# Altium footprint library Header_127.PcbLib: 60 footprints (part 6 of 6)
Each footprint in its own frame and in the unit in brackets; x right, y up, seen from the top. Pads: shape width x height; smd on the part's side, far side on the other; paste and mask are expansions set on the pad; w line width, h text height; cw(c..) or ccw(c..) is an arc to the next point about the centre after c.
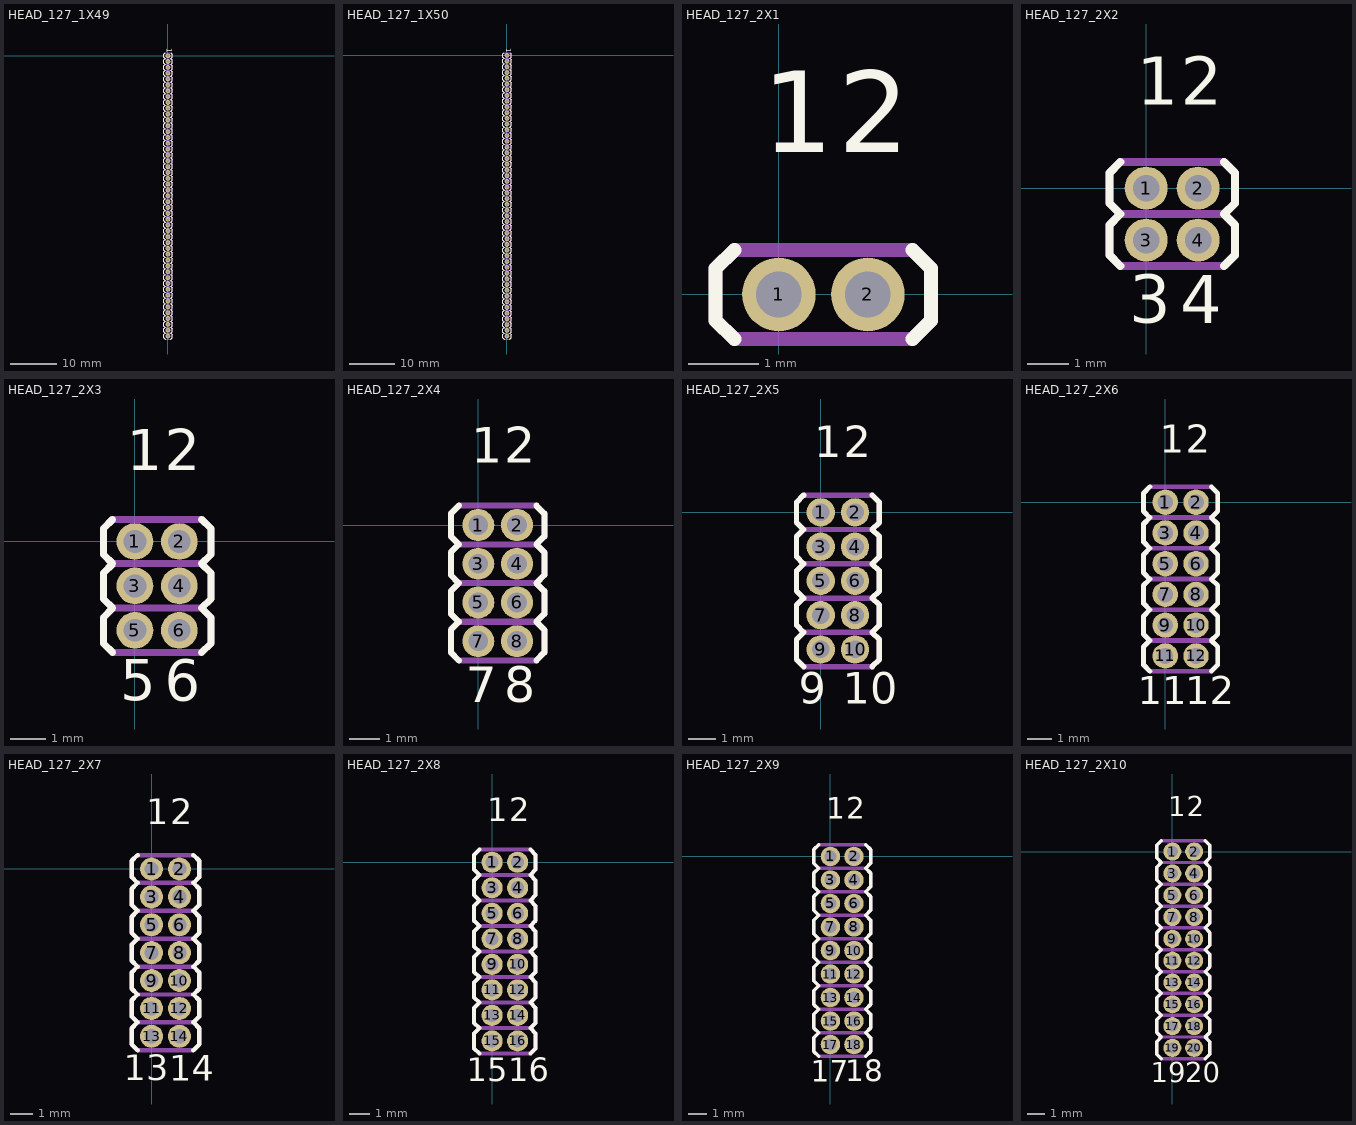
[diagram p5: the footprints below, top view; thin cyan lines are the x and y axes]

## HEAD_127_1X49 [mm] "Header 1.27mm 1x49"
pads (49):
  round 1.05 hole 0.65: 1(0,0) 2(0,-1.27) 3(0,-2.54) 4(0,-3.81) 5(0,-5.08) 6(0,-6.35) 7(0,-7.62) 8(0,-8.89) 9(0,-10.16) 10(0,-11.43) 11(0,-12.7) 12(0,-13.97) 13(0,-15.24) 14(0,-16.51) 15(0,-17.78) 16(0,-19.05) 17(0,-20.32) 18(0,-21.59) 19(0,-22.86) 20(0,-24.13) 21(0,-25.4) 22(0,-26.67) 23(0,-27.94) 24(0,-29.21) 25(0,-30.48) 26(0,-31.75) 27(0,-33.02) 28(0,-34.29) 29(0,-35.56) 30(0,-36.83) 31(0,-38.1) 32(0,-39.37) 33(0,-40.64) 34(0,-41.91) 35(0,-43.18) 36(0,-44.45) 37(0,-45.72) 38(0,-46.99) 39(0,-48.26) 40(0,-49.53) 41(0,-50.8) 42(0,-52.07) 43(0,-53.34) 44(0,-54.61) 45(0,-55.88) 46(0,-57.15) 47(0,-58.42) 48(0,-59.69) 49(0,-60.96)
Top Overlay:
  drawing of 294 lines, arcs and shapes, not listed
  text "1" at -0.642,1.636 h2
Bottom Overlay:
  text "1" at -0.642,0.864 h2
Top Assembly:
  drawing of 351 lines, arcs and shapes, not listed
3D body: height 10, standoff -3, extent -0.2,-57.35 0.2,-56.95
3D body: height 2, standoff 0, extent -0.9,-57.785 0.9,-56.515
3D body: height 10, standoff -3, extent -0.2,-17.98 0.2,-17.58
3D body: height 2, standoff 0, extent -0.9,-18.415 0.9,-17.145
3D body: height 10, standoff -3, extent -0.2,-16.71 0.2,-16.31
3D body: height 2, standoff 0, extent -0.9,-17.145 0.9,-15.875
3D body: height 10, standoff -3, extent -0.2,-15.44 0.2,-15.04
3D body: height 2, standoff 0, extent -0.9,-15.875 0.9,-14.605
3D body: height 10, standoff -3, extent -0.2,-14.17 0.2,-13.77
3D body: height 2, standoff 0, extent -0.9,-14.605 0.9,-13.335
3D body: height 10, standoff -3, extent -0.2,-12.9 0.2,-12.5
3D body: height 2, standoff 0, extent -0.9,-13.335 0.9,-12.065
3D body: height 10, standoff -3, extent -0.2,-11.63 0.2,-11.23
3D body: height 2, standoff 0, extent -0.9,-12.065 0.9,-10.795
3D body: height 10, standoff -3, extent -0.2,-10.36 0.2,-9.96
3D body: height 2, standoff 0, extent -0.9,-10.795 0.9,-9.525
3D body: height 10, standoff -3, extent -0.2,-9.09 0.2,-8.69
3D body: height 2, standoff 0, extent -0.9,-9.525 0.9,-8.255
3D body: height 2, standoff 0, extent -0.9,-8.255 0.9,-6.985
3D body: height 10, standoff -3, extent -0.2,-7.82 0.2,-7.42
3D body: height 2, standoff 0, extent -0.9,-6.985 0.9,-5.715
3D body: height 10, standoff -3, extent -0.2,-6.55 0.2,-6.15
3D body: height 2, standoff 0, extent -0.9,-5.715 0.9,-4.445
3D body: height 10, standoff -3, extent -0.2,-5.28 0.2,-4.88
3D body: height 2, standoff 0, extent -0.9,-4.445 0.9,-3.175
3D body: height 10, standoff -3, extent -0.2,-4.01 0.2,-3.61
3D body: height 2, standoff 0, extent -0.9,-3.175 0.9,-1.905
3D body: height 10, standoff -3, extent -0.2,-2.74 0.2,-2.34
3D body: height 2, standoff 0, extent -0.9,-1.905 0.9,-0.635
3D body: height 10, standoff -3, extent -0.2,-1.47 0.2,-1.07
3D body: height 2, standoff 0, extent -0.9,-0.635 0.9,0.635
3D body: height 10, standoff -3, extent -0.2,-0.2 0.2,0.2
3D body: height 10, standoff -3, extent -0.2,-19.25 0.2,-18.85
3D body: height 2, standoff 0, extent -0.9,-19.685 0.9,-18.415
3D body: height 10, standoff -3, extent -0.2,-20.52 0.2,-20.12
3D body: height 2, standoff 0, extent -0.9,-20.955 0.9,-19.685
3D body: height 10, standoff -3, extent -0.2,-21.79 0.2,-21.39
3D body: height 2, standoff 0, extent -0.9,-22.225 0.9,-20.955
3D body: height 10, standoff -3, extent -0.2,-23.06 0.2,-22.66
3D body: height 2, standoff 0, extent -0.9,-23.495 0.9,-22.225
3D body: height 10, standoff -3, extent -0.2,-24.33 0.2,-23.93
3D body: height 2, standoff 0, extent -0.9,-24.765 0.9,-23.495
3D body: height 10, standoff -3, extent -0.2,-25.6 0.2,-25.2
3D body: height 2, standoff 0, extent -0.9,-26.035 0.9,-24.765
3D body: height 10, standoff -3, extent -0.2,-26.87 0.2,-26.47
3D body: height 2, standoff 0, extent -0.9,-27.305 0.9,-26.035
3D body: height 10, standoff -3, extent -0.2,-28.14 0.2,-27.74
3D body: height 2, standoff 0, extent -0.9,-28.575 0.9,-27.305
3D body: height 10, standoff -3, extent -0.2,-29.41 0.2,-29.01
3D body: height 2, standoff 0, extent -0.9,-29.845 0.9,-28.575
3D body: height 10, standoff -3, extent -0.2,-30.68 0.2,-30.28
3D body: height 2, standoff 0, extent -0.9,-31.115 0.9,-29.845
3D body: height 10, standoff -3, extent -0.2,-31.95 0.2,-31.55
3D body: height 2, standoff 0, extent -0.9,-32.385 0.9,-31.115
3D body: height 10, standoff -3, extent -0.2,-33.22 0.2,-32.82
3D body: height 2, standoff 0, extent -0.9,-33.655 0.9,-32.385
3D body: height 10, standoff -3, extent -0.2,-34.49 0.2,-34.09
3D body: height 2, standoff 0, extent -0.9,-34.925 0.9,-33.655
3D body: height 10, standoff -3, extent -0.2,-35.76 0.2,-35.36
3D body: height 2, standoff 0, extent -0.9,-36.195 0.9,-34.925
3D body: height 10, standoff -3, extent -0.2,-37.03 0.2,-36.63
3D body: height 2, standoff 0, extent -0.9,-37.465 0.9,-36.195
3D body: height 10, standoff -3, extent -0.2,-38.3 0.2,-37.9
3D body: height 2, standoff 0, extent -0.9,-38.735 0.9,-37.465
3D body: height 10, standoff -3, extent -0.2,-39.57 0.2,-39.17
3D body: height 2, standoff 0, extent -0.9,-40.005 0.9,-38.735
3D body: height 10, standoff -3, extent -0.2,-40.84 0.2,-40.44
3D body: height 2, standoff 0, extent -0.9,-41.275 0.9,-40.005
3D body: height 10, standoff -3, extent -0.2,-42.11 0.2,-41.71
3D body: height 2, standoff 0, extent -0.9,-42.545 0.9,-41.275
3D body: height 10, standoff -3, extent -0.2,-43.38 0.2,-42.98
3D body: height 2, standoff 0, extent -0.9,-43.815 0.9,-42.545
3D body: height 10, standoff -3, extent -0.2,-44.65 0.2,-44.25
3D body: height 2, standoff 0, extent -0.9,-45.085 0.9,-43.815
3D body: height 10, standoff -3, extent -0.2,-45.92 0.2,-45.52
3D body: height 2, standoff 0, extent -0.9,-46.355 0.9,-45.085
3D body: height 10, standoff -3, extent -0.2,-47.19 0.2,-46.79
3D body: height 2, standoff 0, extent -0.9,-47.625 0.9,-46.355
3D body: height 10, standoff -3, extent -0.2,-48.46 0.2,-48.06
3D body: height 2, standoff 0, extent -0.9,-48.895 0.9,-47.625
3D body: height 10, standoff -3, extent -0.2,-49.73 0.2,-49.33
3D body: height 2, standoff 0, extent -0.9,-50.165 0.9,-48.895
3D body: height 10, standoff -3, extent -0.2,-51 0.2,-50.6
3D body: height 2, standoff 0, extent -0.9,-51.435 0.9,-50.165
3D body: height 10, standoff -3, extent -0.2,-52.27 0.2,-51.87
3D body: height 2, standoff 0, extent -0.9,-52.705 0.9,-51.435
3D body: height 10, standoff -3, extent -0.2,-53.54 0.2,-53.14
3D body: height 2, standoff 0, extent -0.9,-53.975 0.9,-52.705
3D body: height 10, standoff -3, extent -0.2,-54.81 0.2,-54.41
3D body: height 2, standoff 0, extent -0.9,-55.245 0.9,-53.975
3D body: height 10, standoff -3, extent -0.2,-56.08 0.2,-55.68
3D body: height 2, standoff 0, extent -0.9,-56.515 0.9,-55.245
3D body: height 10, standoff -3, extent -0.2,-58.62 0.2,-58.22
3D body: height 2, standoff 0, extent -0.9,-59.055 0.9,-57.785
3D body: height 10, standoff -3, extent -0.2,-59.89 0.2,-59.49
3D body: height 2, standoff 0, extent -0.9,-60.325 0.9,-59.055
3D body: height 10, standoff -3, extent -0.2,-61.16 0.2,-60.76
3D body: height 2, standoff 0, extent -0.9,-61.595 0.9,-60.325

## HEAD_127_1X50 [mm] "Header 1.27mm 1x50"
pads (50):
  round 1.05 hole 0.65: 1(0,0) 2(0,-1.27) 3(0,-2.54) 4(0,-3.81) 5(0,-5.08) 6(0,-6.35) 7(0,-7.62) 8(0,-8.89) 9(0,-10.16) 10(0,-11.43) 11(0,-12.7) 12(0,-13.97) 13(0,-15.24) 14(0,-16.51) 15(0,-17.78) 16(0,-19.05) 17(0,-20.32) 18(0,-21.59) 19(0,-22.86) 20(0,-24.13) 21(0,-25.4) 22(0,-26.67) 23(0,-27.94) 24(0,-29.21) 25(0,-30.48) 26(0,-31.75) 27(0,-33.02) 28(0,-34.29) 29(0,-35.56) 30(0,-36.83) 31(0,-38.1) 32(0,-39.37) 33(0,-40.64) 34(0,-41.91) 35(0,-43.18) 36(0,-44.45) 37(0,-45.72) 38(0,-46.99) 39(0,-48.26) 40(0,-49.53) 41(0,-50.8) 42(0,-52.07) 43(0,-53.34) 44(0,-54.61) 45(0,-55.88) 46(0,-57.15) 47(0,-58.42) 48(0,-59.69) 49(0,-60.96) 50(0,-62.23)
Top Overlay:
  drawing of 300 lines, arcs and shapes, not listed
  text "1" at -0.642,1.636 h2
Bottom Overlay:
  text "1" at -0.642,0.864 h2
Top Assembly:
  drawing of 358 lines, arcs and shapes, not listed
3D body: height 10, standoff -3, extent -0.2,-57.35 0.2,-56.95
3D body: height 2, standoff 0, extent -0.9,-57.785 0.9,-56.515
3D body: height 10, standoff -3, extent -0.2,-17.98 0.2,-17.58
3D body: height 2, standoff 0, extent -0.9,-18.415 0.9,-17.145
3D body: height 10, standoff -3, extent -0.2,-16.71 0.2,-16.31
3D body: height 2, standoff 0, extent -0.9,-17.145 0.9,-15.875
3D body: height 10, standoff -3, extent -0.2,-15.44 0.2,-15.04
3D body: height 2, standoff 0, extent -0.9,-15.875 0.9,-14.605
3D body: height 10, standoff -3, extent -0.2,-14.17 0.2,-13.77
3D body: height 2, standoff 0, extent -0.9,-14.605 0.9,-13.335
3D body: height 10, standoff -3, extent -0.2,-12.9 0.2,-12.5
3D body: height 2, standoff 0, extent -0.9,-13.335 0.9,-12.065
3D body: height 10, standoff -3, extent -0.2,-11.63 0.2,-11.23
3D body: height 2, standoff 0, extent -0.9,-12.065 0.9,-10.795
3D body: height 10, standoff -3, extent -0.2,-10.36 0.2,-9.96
3D body: height 2, standoff 0, extent -0.9,-10.795 0.9,-9.525
3D body: height 10, standoff -3, extent -0.2,-9.09 0.2,-8.69
3D body: height 2, standoff 0, extent -0.9,-9.525 0.9,-8.255
3D body: height 2, standoff 0, extent -0.9,-8.255 0.9,-6.985
3D body: height 10, standoff -3, extent -0.2,-7.82 0.2,-7.42
3D body: height 2, standoff 0, extent -0.9,-6.985 0.9,-5.715
3D body: height 10, standoff -3, extent -0.2,-6.55 0.2,-6.15
3D body: height 2, standoff 0, extent -0.9,-5.715 0.9,-4.445
3D body: height 10, standoff -3, extent -0.2,-5.28 0.2,-4.88
3D body: height 2, standoff 0, extent -0.9,-4.445 0.9,-3.175
3D body: height 10, standoff -3, extent -0.2,-4.01 0.2,-3.61
3D body: height 2, standoff 0, extent -0.9,-3.175 0.9,-1.905
3D body: height 10, standoff -3, extent -0.2,-2.74 0.2,-2.34
3D body: height 2, standoff 0, extent -0.9,-1.905 0.9,-0.635
3D body: height 10, standoff -3, extent -0.2,-1.47 0.2,-1.07
3D body: height 2, standoff 0, extent -0.9,-0.635 0.9,0.635
3D body: height 10, standoff -3, extent -0.2,-0.2 0.2,0.2
3D body: height 10, standoff -3, extent -0.2,-19.25 0.2,-18.85
3D body: height 2, standoff 0, extent -0.9,-19.685 0.9,-18.415
3D body: height 10, standoff -3, extent -0.2,-20.52 0.2,-20.12
3D body: height 2, standoff 0, extent -0.9,-20.955 0.9,-19.685
3D body: height 10, standoff -3, extent -0.2,-21.79 0.2,-21.39
3D body: height 2, standoff 0, extent -0.9,-22.225 0.9,-20.955
3D body: height 10, standoff -3, extent -0.2,-23.06 0.2,-22.66
3D body: height 2, standoff 0, extent -0.9,-23.495 0.9,-22.225
3D body: height 10, standoff -3, extent -0.2,-24.33 0.2,-23.93
3D body: height 2, standoff 0, extent -0.9,-24.765 0.9,-23.495
3D body: height 10, standoff -3, extent -0.2,-25.6 0.2,-25.2
3D body: height 2, standoff 0, extent -0.9,-26.035 0.9,-24.765
3D body: height 10, standoff -3, extent -0.2,-26.87 0.2,-26.47
3D body: height 2, standoff 0, extent -0.9,-27.305 0.9,-26.035
3D body: height 10, standoff -3, extent -0.2,-28.14 0.2,-27.74
3D body: height 2, standoff 0, extent -0.9,-28.575 0.9,-27.305
3D body: height 10, standoff -3, extent -0.2,-29.41 0.2,-29.01
3D body: height 2, standoff 0, extent -0.9,-29.845 0.9,-28.575
3D body: height 10, standoff -3, extent -0.2,-30.68 0.2,-30.28
3D body: height 2, standoff 0, extent -0.9,-31.115 0.9,-29.845
3D body: height 10, standoff -3, extent -0.2,-31.95 0.2,-31.55
3D body: height 2, standoff 0, extent -0.9,-32.385 0.9,-31.115
3D body: height 10, standoff -3, extent -0.2,-33.22 0.2,-32.82
3D body: height 2, standoff 0, extent -0.9,-33.655 0.9,-32.385
3D body: height 10, standoff -3, extent -0.2,-34.49 0.2,-34.09
3D body: height 2, standoff 0, extent -0.9,-34.925 0.9,-33.655
3D body: height 10, standoff -3, extent -0.2,-35.76 0.2,-35.36
3D body: height 2, standoff 0, extent -0.9,-36.195 0.9,-34.925
3D body: height 10, standoff -3, extent -0.2,-37.03 0.2,-36.63
3D body: height 2, standoff 0, extent -0.9,-37.465 0.9,-36.195
3D body: height 10, standoff -3, extent -0.2,-38.3 0.2,-37.9
3D body: height 2, standoff 0, extent -0.9,-38.735 0.9,-37.465
3D body: height 10, standoff -3, extent -0.2,-39.57 0.2,-39.17
3D body: height 2, standoff 0, extent -0.9,-40.005 0.9,-38.735
3D body: height 10, standoff -3, extent -0.2,-40.84 0.2,-40.44
3D body: height 2, standoff 0, extent -0.9,-41.275 0.9,-40.005
3D body: height 10, standoff -3, extent -0.2,-42.11 0.2,-41.71
3D body: height 2, standoff 0, extent -0.9,-42.545 0.9,-41.275
3D body: height 10, standoff -3, extent -0.2,-43.38 0.2,-42.98
3D body: height 2, standoff 0, extent -0.9,-43.815 0.9,-42.545
3D body: height 10, standoff -3, extent -0.2,-44.65 0.2,-44.25
3D body: height 2, standoff 0, extent -0.9,-45.085 0.9,-43.815
3D body: height 10, standoff -3, extent -0.2,-45.92 0.2,-45.52
3D body: height 2, standoff 0, extent -0.9,-46.355 0.9,-45.085
3D body: height 10, standoff -3, extent -0.2,-47.19 0.2,-46.79
3D body: height 2, standoff 0, extent -0.9,-47.625 0.9,-46.355
3D body: height 10, standoff -3, extent -0.2,-48.46 0.2,-48.06
3D body: height 2, standoff 0, extent -0.9,-48.895 0.9,-47.625
3D body: height 10, standoff -3, extent -0.2,-49.73 0.2,-49.33
3D body: height 2, standoff 0, extent -0.9,-50.165 0.9,-48.895
3D body: height 10, standoff -3, extent -0.2,-51 0.2,-50.6
3D body: height 2, standoff 0, extent -0.9,-51.435 0.9,-50.165
3D body: height 10, standoff -3, extent -0.2,-52.27 0.2,-51.87
3D body: height 2, standoff 0, extent -0.9,-52.705 0.9,-51.435
3D body: height 10, standoff -3, extent -0.2,-53.54 0.2,-53.14
3D body: height 2, standoff 0, extent -0.9,-53.975 0.9,-52.705
3D body: height 10, standoff -3, extent -0.2,-54.81 0.2,-54.41
3D body: height 2, standoff 0, extent -0.9,-55.245 0.9,-53.975
3D body: height 10, standoff -3, extent -0.2,-56.08 0.2,-55.68
3D body: height 2, standoff 0, extent -0.9,-56.515 0.9,-55.245
3D body: height 10, standoff -3, extent -0.2,-58.62 0.2,-58.22
3D body: height 2, standoff 0, extent -0.9,-59.055 0.9,-57.785
3D body: height 10, standoff -3, extent -0.2,-59.89 0.2,-59.49
3D body: height 2, standoff 0, extent -0.9,-60.325 0.9,-59.055
3D body: height 10, standoff -3, extent -0.2,-61.16 0.2,-60.76
3D body: height 2, standoff 0, extent -0.9,-61.595 0.9,-60.325
3D body: height 10, standoff -3, extent -0.2,-62.43 0.2,-62.03
3D body: height 2, standoff 0, extent -0.9,-62.865 0.9,-61.595

## HEAD_127_2X1 [mm] "Header 1.27mm 2x1"
pads (2):
  round 1.05 hole 0.65: 1(0,0) 2(1.27,0)
Top Overlay:
  lines w0.2: -0.635,-0.635 -0.9,-0.37 -0.9,0.37 -0.635,0.635 ; 1.905,-0.635 2.17,-0.37 2.17,0.37 1.905,0.635
  text "1" at -0.236,1.644 h2
  text "2" at 0.845,1.644 h2
Bottom Overlay:
  text "1" at 0.236,0.882 h2
  text "2" at 1.695,0.882 h2
Top Assembly:
  lines w0.2: -0.9,-0.37 -0.635,-0.635 1.905,-0.635 2.17,-0.37 2.17,0.37 1.905,0.635 -0.635,0.635 -0.9,0.37 -0.9,-0.37
3D body: height 10, standoff -3, extent -0.2,-0.2 0.2,0.2
3D body: height 10, standoff -3, extent 1.07,-0.2 1.47,0.2
3D body: height 2, standoff 0, extent -0.9,-0.635 2.17,0.635

## HEAD_127_2X2 [mm] "Header 1.27mm 2x2"
pads (4):
  round 1.05 hole 0.65: 1(0,0) 2(1.27,0) 3(0,-1.27) 4(1.27,-1.27)
Top Overlay:
  lines w0.2: -0.635,-1.905 -0.9,-1.64 -0.9,-0.9 -0.635,-0.635 -0.9,-0.37 -0.9,0.37 -0.635,0.635 ; 1.905,-1.905 2.17,-1.64 2.17,-0.9 1.905,-0.635 2.17,-0.37 2.17,0.37 1.905,0.635
  text "4" at 0.826,-3.688 h2
  text "3" at -0.419,-3.679 h2
  text "2" at 0.845,1.644 h2
  text "1" at -0.236,1.644 h2
Bottom Overlay:
  text "3" at 0.419,-3.425 h2
  text "4" at 1.714,-3.434 h2
  text "2" at 1.695,0.882 h2
  text "1" at 0.236,0.882 h2
Top Assembly:
  lines w0.2: -0.635,-0.635 -0.9,-0.9 -0.9,-1.64 -0.635,-1.905 1.905,-1.905 2.17,-1.64 2.17,-0.9 1.905,-0.635 ; -0.635,-0.635 -0.9,-0.37 -0.9,0.37 -0.635,0.635 1.905,0.635 2.17,0.37 2.17,-0.37 1.905,-0.635 ; -0.635,-0.635 1.905,-0.635
3D body: height 10, standoff -3, extent -0.2,-1.47 0.2,-1.07
3D body: height 10, standoff -3, extent 1.07,-1.47 1.47,-1.07
3D body: height 2, standoff 0, extent -0.9,-1.905 2.17,-0.635
3D body: height 10, standoff -3, extent -0.2,-0.2 0.2,0.2
3D body: height 10, standoff -3, extent 1.07,-0.2 1.47,0.2
3D body: height 2, standoff 0, extent -0.9,-0.635 2.17,0.635

## HEAD_127_2X3 [mm] "Header 1.27mm 2x3"
pads (6):
  round 1.05 hole 0.65: 1(0,0) 2(1.27,0) 3(0,-1.27) 4(1.27,-1.27) 5(0,-2.54) 6(1.27,-2.54)
Top Overlay:
  lines w0.2: -0.635,-3.175 -0.9,-2.91 -0.9,-2.17 -0.635,-1.905 -0.9,-1.64 -0.9,-0.9 -0.635,-0.635 -0.9,-0.37 -0.9,0.37 -0.635,0.635 ; 1.905,-3.175 2.17,-2.91 2.17,-2.17 1.905,-1.905 2.17,-1.64 2.17,-0.9 1.905,-0.635 2.17,-0.37 2.17,0.37 1.905,0.635
  text "1" at -0.236,1.644 h2
  text "2" at 0.845,1.644 h2
  text "6" at 0.847,-4.931 h2
  text "5" at -0.424,-4.92 h2
Bottom Overlay:
  text "1" at 0.236,0.882 h2
  text "2" at 1.695,0.882 h2
  text "6" at 1.693,-4.677 h2
  text "5" at 0.424,-4.666 h2
Top Assembly:
  lines w0.2: -0.635,-1.905 1.905,-1.905 ; -0.635,-1.905 -0.9,-1.64 -0.9,-0.9 -0.635,-0.635 ; -0.635,-1.905 -0.9,-2.17 -0.9,-2.91 -0.635,-3.175 1.905,-3.175 2.17,-2.91 2.17,-2.17 1.905,-1.905 ; -0.635,-0.635 1.905,-0.635 ; -0.635,-0.635 -0.9,-0.37 -0.9,0.37 -0.635,0.635 1.905,0.635 2.17,0.37 2.17,-0.37 1.905,-0.635 ; 1.905,-1.905 2.17,-1.64 2.17,-0.9 1.905,-0.635
3D body: height 2, standoff 0, extent -0.9,-0.635 2.17,0.635
3D body: height 10, standoff -3, extent 1.07,-0.2 1.47,0.2
3D body: height 10, standoff -3, extent -0.2,-0.2 0.2,0.2
3D body: height 2, standoff 0, extent -0.9,-1.905 2.17,-0.635
3D body: height 10, standoff -3, extent 1.07,-1.47 1.47,-1.07
3D body: height 10, standoff -3, extent -0.2,-1.47 0.2,-1.07
3D body: height 2, standoff 0, extent -0.9,-3.175 2.17,-1.905
3D body: height 10, standoff -3, extent 1.07,-2.74 1.47,-2.34
3D body: height 10, standoff -3, extent -0.2,-2.74 0.2,-2.34

## HEAD_127_2X4 [mm] "Header 1.27mm 2x4"
pads (8):
  round 1.05 hole 0.65: 1(0,0) 2(1.27,0) 3(0,-1.27) 4(1.27,-1.27) 5(0,-2.54) 6(1.27,-2.54) 7(0,-3.81) 8(1.27,-3.81)
Top Overlay:
  lines w0.2: -0.635,-4.445 -0.9,-4.18 -0.9,-3.44 -0.635,-3.175 -0.9,-2.91 -0.9,-2.17 -0.635,-1.905 -0.9,-1.64 -0.9,-0.9 -0.635,-0.635 -0.9,-0.37 -0.9,0.37 -0.635,0.635 ; 1.905,-4.445 2.17,-4.18 2.17,-3.44 1.905,-3.175 2.17,-2.91 2.17,-2.17 1.905,-1.905 2.17,-1.64 2.17,-0.9 1.905,-0.635 2.17,-0.37 2.17,0.37 1.905,0.635
  text "1" at -0.236,1.644 h2
  text "2" at 0.845,1.644 h2
  text "7" at -0.414,-6.201 h2
  text "8" at 0.848,-6.201 h2
Bottom Overlay:
  text "1" at 0.236,0.882 h2
  text "2" at 1.695,0.882 h2
  text "7" at 0.414,-5.947 h2
  text "8" at 1.692,-5.947 h2
Top Assembly:
  lines w0.2: -0.635,-3.175 1.905,-3.175 ; -0.635,-3.175 -0.9,-2.91 -0.9,-2.17 -0.635,-1.905 ; -0.635,-3.175 -0.9,-3.44 -0.9,-4.18 -0.635,-4.445 1.905,-4.445 2.17,-4.18 2.17,-3.44 1.905,-3.175 ; -0.635,-1.905 1.905,-1.905 ; -0.635,-1.905 -0.9,-1.64 -0.9,-0.9 -0.635,-0.635 ; -0.635,-0.635 1.905,-0.635 ; -0.635,-0.635 -0.9,-0.37 -0.9,0.37 -0.635,0.635 1.905,0.635 2.17,0.37 2.17,-0.37 1.905,-0.635 ; 1.905,-3.175 2.17,-2.91 2.17,-2.17 1.905,-1.905 ; 1.905,-1.905 2.17,-1.64 2.17,-0.9 1.905,-0.635
3D body: height 2, standoff 0, extent -0.9,-0.635 2.17,0.635
3D body: height 10, standoff -3, extent 1.07,-0.2 1.47,0.2
3D body: height 10, standoff -3, extent -0.2,-0.2 0.2,0.2
3D body: height 2, standoff 0, extent -0.9,-1.905 2.17,-0.635
3D body: height 10, standoff -3, extent 1.07,-1.47 1.47,-1.07
3D body: height 10, standoff -3, extent -0.2,-1.47 0.2,-1.07
3D body: height 2, standoff 0, extent -0.9,-3.175 2.17,-1.905
3D body: height 10, standoff -3, extent 1.07,-2.74 1.47,-2.34
3D body: height 10, standoff -3, extent -0.2,-2.74 0.2,-2.34
3D body: height 2, standoff 0, extent -0.9,-4.445 2.17,-3.175
3D body: height 10, standoff -3, extent 1.07,-4.01 1.47,-3.61
3D body: height 10, standoff -3, extent -0.2,-4.01 0.2,-3.61

## HEAD_127_2X5 [mm] "Header 1.27mm 2x5"
pads (10):
  round 1.05 hole 0.65: 1(0,0) 2(1.27,0) 3(0,-1.27) 4(1.27,-1.27) 5(0,-2.54) 6(1.27,-2.54) 7(0,-3.81) 8(1.27,-3.81) 9(0,-5.08) 10(1.27,-5.08)
Top Overlay:
  lines w0.2: -0.635,-5.715 -0.9,-5.45 -0.9,-4.71 -0.635,-4.445 -0.9,-4.18 -0.9,-3.44 -0.635,-3.175 -0.9,-2.91 -0.9,-2.17 -0.635,-1.905 -0.9,-1.64 -0.9,-0.9 -0.635,-0.635 -0.9,-0.37 -0.9,0.37 -0.635,0.635 ; 1.905,-5.715 2.17,-5.45 2.17,-4.71 1.905,-4.445 2.17,-4.18 2.17,-3.44 1.905,-3.175 2.17,-2.91 2.17,-2.17 1.905,-1.905 2.17,-1.64 2.17,-0.9 1.905,-0.635 2.17,-0.37 2.17,0.37 1.905,0.635
  text "10" at 0.816,-7.471 h2
  text "9" at -0.82,-7.471 h2
  text "2" at 0.845,1.644 h2
  text "1" at -0.236,1.644 h2
Bottom Overlay:
  text "10" at 2.524,-7.217 h2
  text "9" at 0.02,-7.217 h2
  text "2" at 1.695,0.882 h2
  text "1" at 0.236,0.882 h2
Top Assembly:
  lines w0.2: -0.635,-4.445 -0.9,-4.71 -0.9,-5.45 -0.635,-5.715 1.905,-5.715 2.17,-5.45 2.17,-4.71 1.905,-4.445 ; -0.635,-4.445 -0.9,-4.18 -0.9,-3.44 -0.635,-3.175 ; -0.635,-4.445 1.905,-4.445 ; -0.635,-3.175 -0.9,-2.91 -0.9,-2.17 -0.635,-1.905 ; -0.635,-3.175 1.905,-3.175 ; -0.635,-1.905 -0.9,-1.64 -0.9,-0.9 -0.635,-0.635 ; -0.635,-1.905 1.905,-1.905 ; -0.635,-0.635 -0.9,-0.37 -0.9,0.37 -0.635,0.635 1.905,0.635 2.17,0.37 2.17,-0.37 1.905,-0.635 ; -0.635,-0.635 1.905,-0.635 ; 1.905,-4.445 2.17,-4.18 2.17,-3.44 1.905,-3.175 ; 1.905,-3.175 2.17,-2.91 2.17,-2.17 1.905,-1.905 ; 1.905,-1.905 2.17,-1.64 2.17,-0.9 1.905,-0.635
3D body: height 10, standoff -3, extent -0.2,-5.28 0.2,-4.88
3D body: height 10, standoff -3, extent 1.07,-5.28 1.47,-4.88
3D body: height 2, standoff 0, extent -0.9,-5.715 2.17,-4.445
3D body: height 10, standoff -3, extent -0.2,-4.01 0.2,-3.61
3D body: height 10, standoff -3, extent 1.07,-4.01 1.47,-3.61
3D body: height 2, standoff 0, extent -0.9,-4.445 2.17,-3.175
3D body: height 10, standoff -3, extent -0.2,-2.74 0.2,-2.34
3D body: height 10, standoff -3, extent 1.07,-2.74 1.47,-2.34
3D body: height 2, standoff 0, extent -0.9,-3.175 2.17,-1.905
3D body: height 10, standoff -3, extent -0.2,-1.47 0.2,-1.07
3D body: height 10, standoff -3, extent 1.07,-1.47 1.47,-1.07
3D body: height 2, standoff 0, extent -0.9,-1.905 2.17,-0.635
3D body: height 10, standoff -3, extent -0.2,-0.2 0.2,0.2
3D body: height 10, standoff -3, extent 1.07,-0.2 1.47,0.2
3D body: height 2, standoff 0, extent -0.9,-0.635 2.17,0.635

## HEAD_127_2X6 [mm] "Header 1.27mm 2x6"
pads (12):
  round 1.05 hole 0.65: 1(0,0) 2(1.27,0) 3(0,-1.27) 4(1.27,-1.27) 5(0,-2.54) 6(1.27,-2.54) 7(0,-3.81) 8(1.27,-3.81) 9(0,-5.08) 10(1.27,-5.08) 11(0,-6.35) 12(1.27,-6.35)
Top Overlay:
  lines w0.2: -0.635,-6.985 -0.9,-6.72 -0.9,-5.98 -0.635,-5.715 -0.9,-5.45 -0.9,-4.71 -0.635,-4.445 -0.9,-4.18 -0.9,-3.44 -0.635,-3.175 -0.9,-2.91 -0.9,-2.17 -0.635,-1.905 -0.9,-1.64 -0.9,-0.9 -0.635,-0.635 -0.9,-0.37 -0.9,0.37 -0.635,0.635 ; 1.905,-6.985 2.17,-6.72 2.17,-5.98 1.905,-5.715 2.17,-5.45 2.17,-4.71 1.905,-4.445 2.17,-4.18 2.17,-3.44 1.905,-3.175 2.17,-2.91 2.17,-2.17 1.905,-1.905 2.17,-1.64 2.17,-0.9 1.905,-0.635 2.17,-0.37 2.17,0.37 1.905,0.635
  text "12" at 0.82,-8.751 h2
  text "11" at -1.133,-8.751 h2
  text "2" at 0.845,1.644 h2
  text "1" at -0.236,1.644 h2
Bottom Overlay:
  text "12" at 2.52,-8.497 h2
  text "11" at 0.333,-8.497 h2
  text "2" at 1.695,0.882 h2
  text "1" at 0.236,0.882 h2
Top Assembly:
  lines w0.2: -0.635,-5.715 -0.9,-5.45 -0.9,-4.71 -0.635,-4.445 ; -0.635,-5.715 1.905,-5.715 ; -0.635,-5.715 -0.9,-5.98 -0.9,-6.72 -0.635,-6.985 1.905,-6.985 2.17,-6.72 2.17,-5.98 1.905,-5.715 ; -0.635,-4.445 -0.9,-4.18 -0.9,-3.44 -0.635,-3.175 ; -0.635,-4.445 1.905,-4.445 ; -0.635,-3.175 -0.9,-2.91 -0.9,-2.17 -0.635,-1.905 ; -0.635,-3.175 1.905,-3.175 ; -0.635,-1.905 -0.9,-1.64 -0.9,-0.9 -0.635,-0.635 ; -0.635,-1.905 1.905,-1.905 ; -0.635,-0.635 -0.9,-0.37 -0.9,0.37 -0.635,0.635 1.905,0.635 2.17,0.37 2.17,-0.37 1.905,-0.635 ; -0.635,-0.635 1.905,-0.635 ; 1.905,-5.715 2.17,-5.45 2.17,-4.71 1.905,-4.445 ; 1.905,-4.445 2.17,-4.18 2.17,-3.44 1.905,-3.175 ; 1.905,-3.175 2.17,-2.91 2.17,-2.17 1.905,-1.905 ; 1.905,-1.905 2.17,-1.64 2.17,-0.9 1.905,-0.635
3D body: height 10, standoff -3, extent -0.2,-5.28 0.2,-4.88
3D body: height 10, standoff -3, extent 1.07,-5.28 1.47,-4.88
3D body: height 2, standoff 0, extent -0.9,-5.715 2.17,-4.445
3D body: height 10, standoff -3, extent -0.2,-4.01 0.2,-3.61
3D body: height 10, standoff -3, extent 1.07,-4.01 1.47,-3.61
3D body: height 2, standoff 0, extent -0.9,-4.445 2.17,-3.175
3D body: height 10, standoff -3, extent -0.2,-2.74 0.2,-2.34
3D body: height 10, standoff -3, extent 1.07,-2.74 1.47,-2.34
3D body: height 2, standoff 0, extent -0.9,-3.175 2.17,-1.905
3D body: height 10, standoff -3, extent -0.2,-1.47 0.2,-1.07
3D body: height 10, standoff -3, extent 1.07,-1.47 1.47,-1.07
3D body: height 2, standoff 0, extent -0.9,-1.905 2.17,-0.635
3D body: height 10, standoff -3, extent -0.2,-0.2 0.2,0.2
3D body: height 10, standoff -3, extent 1.07,-0.2 1.47,0.2
3D body: height 2, standoff 0, extent -0.9,-0.635 2.17,0.635
3D body: height 10, standoff -3, extent -0.2,-6.55 0.2,-6.15
3D body: height 10, standoff -3, extent 1.07,-6.55 1.47,-6.15
3D body: height 2, standoff 0, extent -0.9,-6.985 2.17,-5.715

## HEAD_127_2X7 [mm] "Header 1.27mm 2x7"
pads (14):
  round 1.05 hole 0.65: 1(0,0) 2(1.27,0) 3(0,-1.27) 4(1.27,-1.27) 5(0,-2.54) 6(1.27,-2.54) 7(0,-3.81) 8(1.27,-3.81) 9(0,-5.08) 10(1.27,-5.08) 11(0,-6.35) 12(1.27,-6.35) 13(0,-7.62) 14(1.27,-7.62)
Top Overlay:
  lines w0.2: -0.635,-8.255 -0.9,-7.99 -0.9,-7.25 -0.635,-6.985 -0.9,-6.72 -0.9,-5.98 -0.635,-5.715 -0.9,-5.45 -0.9,-4.71 -0.635,-4.445 -0.9,-4.18 -0.9,-3.44 -0.635,-3.175 -0.9,-2.91 -0.9,-2.17 -0.635,-1.905 -0.9,-1.64 -0.9,-0.9 -0.635,-0.635 -0.9,-0.37 -0.9,0.37 -0.635,0.635 ; 1.905,-8.255 2.17,-7.99 2.17,-7.25 1.905,-6.985 2.17,-6.72 2.17,-5.98 1.905,-5.715 2.17,-5.45 2.17,-4.71 1.905,-4.445 2.17,-4.18 2.17,-3.44 1.905,-3.175 2.17,-2.91 2.17,-2.17 1.905,-1.905 2.17,-1.64 2.17,-0.9 1.905,-0.635 2.17,-0.37 2.17,0.37 1.905,0.635
  text "14" at 0.816,-10.021 h2
  text "13" at -1.256,-10.01 h2
  text "2" at 0.845,1.644 h2
  text "1" at -0.236,1.644 h2
Bottom Overlay:
  text "14" at 2.524,-9.767 h2
  text "13" at 0.456,-9.756 h2
  text "2" at 1.695,0.882 h2
  text "1" at 0.236,0.882 h2
Top Assembly:
  lines w0.2: -0.635,-6.985 -0.9,-6.72 -0.9,-5.98 -0.635,-5.715 ; -0.635,-6.985 1.905,-6.985 ; -0.635,-6.985 -0.9,-7.25 -0.9,-7.99 -0.635,-8.255 1.905,-8.255 2.17,-7.99 2.17,-7.25 1.905,-6.985 ; -0.635,-5.715 -0.9,-5.45 -0.9,-4.71 -0.635,-4.445 ; -0.635,-5.715 1.905,-5.715 ; -0.635,-4.445 -0.9,-4.18 -0.9,-3.44 -0.635,-3.175 ; -0.635,-4.445 1.905,-4.445 ; -0.635,-3.175 -0.9,-2.91 -0.9,-2.17 -0.635,-1.905 ; -0.635,-3.175 1.905,-3.175 ; -0.635,-1.905 -0.9,-1.64 -0.9,-0.9 -0.635,-0.635 ; -0.635,-1.905 1.905,-1.905 ; -0.635,-0.635 -0.9,-0.37 -0.9,0.37 -0.635,0.635 1.905,0.635 2.17,0.37 2.17,-0.37 1.905,-0.635 ; -0.635,-0.635 1.905,-0.635 ; 1.905,-6.985 2.17,-6.72 2.17,-5.98 1.905,-5.715 ; 1.905,-5.715 2.17,-5.45 2.17,-4.71 1.905,-4.445 ; 1.905,-4.445 2.17,-4.18 2.17,-3.44 1.905,-3.175 ; 1.905,-3.175 2.17,-2.91 2.17,-2.17 1.905,-1.905 ; 1.905,-1.905 2.17,-1.64 2.17,-0.9 1.905,-0.635
3D body: height 10, standoff -3, extent -0.2,-5.28 0.2,-4.88
3D body: height 10, standoff -3, extent 1.07,-5.28 1.47,-4.88
3D body: height 2, standoff 0, extent -0.9,-5.715 2.17,-4.445
3D body: height 10, standoff -3, extent -0.2,-4.01 0.2,-3.61
3D body: height 10, standoff -3, extent 1.07,-4.01 1.47,-3.61
3D body: height 2, standoff 0, extent -0.9,-4.445 2.17,-3.175
3D body: height 10, standoff -3, extent -0.2,-2.74 0.2,-2.34
3D body: height 10, standoff -3, extent 1.07,-2.74 1.47,-2.34
3D body: height 2, standoff 0, extent -0.9,-3.175 2.17,-1.905
3D body: height 10, standoff -3, extent -0.2,-1.47 0.2,-1.07
3D body: height 10, standoff -3, extent 1.07,-1.47 1.47,-1.07
3D body: height 2, standoff 0, extent -0.9,-1.905 2.17,-0.635
3D body: height 10, standoff -3, extent -0.2,-0.2 0.2,0.2
3D body: height 10, standoff -3, extent 1.07,-0.2 1.47,0.2
3D body: height 2, standoff 0, extent -0.9,-0.635 2.17,0.635
3D body: height 10, standoff -3, extent -0.2,-6.55 0.2,-6.15
3D body: height 10, standoff -3, extent 1.07,-6.55 1.47,-6.15
3D body: height 2, standoff 0, extent -0.9,-6.985 2.17,-5.715
3D body: height 10, standoff -3, extent -0.2,-7.82 0.2,-7.42
3D body: height 10, standoff -3, extent 1.07,-7.82 1.47,-7.42
3D body: height 2, standoff 0, extent -0.9,-8.255 2.17,-6.985

## HEAD_127_2X8 [mm] "Header 1.27mm 2x8"
pads (16):
  round 1.05 hole 0.65: 1(0,0) 2(1.27,0) 3(0,-1.27) 4(1.27,-1.27) 5(0,-2.54) 6(1.27,-2.54) 7(0,-3.81) 8(1.27,-3.81) 9(0,-5.08) 10(1.27,-5.08) 11(0,-6.35) 12(1.27,-6.35) 13(0,-7.62) 14(1.27,-7.62) 15(0,-8.89) 16(1.27,-8.89)
Top Overlay:
  lines w0.2: -0.635,-9.525 -0.9,-9.26 -0.9,-8.52 -0.635,-8.255 -0.9,-7.99 -0.9,-7.25 -0.635,-6.985 -0.9,-6.72 -0.9,-5.98 -0.635,-5.715 -0.9,-5.45 -0.9,-4.71 -0.635,-4.445 -0.9,-4.18 -0.9,-3.44 -0.635,-3.175 -0.9,-2.91 -0.9,-2.17 -0.635,-1.905 -0.9,-1.64 -0.9,-0.9 -0.635,-0.635 -0.9,-0.37 -0.9,0.37 -0.635,0.635 ; 1.905,-9.525 2.17,-9.26 2.17,-8.52 1.905,-8.255 2.17,-7.99 2.17,-7.25 1.905,-6.985 2.17,-6.72 2.17,-5.98 1.905,-5.715 2.17,-5.45 2.17,-4.71 1.905,-4.445 2.17,-4.18 2.17,-3.44 1.905,-3.175 2.17,-2.91 2.17,-2.17 1.905,-1.905 2.17,-1.64 2.17,-0.9 1.905,-0.635 2.17,-0.37 2.17,0.37 1.905,0.635
  text "1" at -0.236,1.644 h2
  text "2" at 0.845,1.644 h2
  text "15" at -1.261,-11.281 h2
  text "16" at 0.814,-11.281 h2
Bottom Overlay:
  text "1" at 0.236,0.882 h2
  text "2" at 1.695,0.882 h2
  text "15" at 0.461,-11.027 h2
  text "16" at 2.526,-11.027 h2
Top Assembly:
  lines w0.2: -0.635,-8.255 -0.9,-8.52 -0.9,-9.26 -0.635,-9.525 1.905,-9.525 2.17,-9.26 2.17,-8.52 1.905,-8.255 ; -0.635,-8.255 1.905,-8.255 ; -0.635,-8.255 -0.9,-7.99 -0.9,-7.25 -0.635,-6.985 ; -0.635,-6.985 1.905,-6.985 ; -0.635,-6.985 -0.9,-6.72 -0.9,-5.98 -0.635,-5.715 ; -0.635,-5.715 1.905,-5.715 ; -0.635,-5.715 -0.9,-5.45 -0.9,-4.71 -0.635,-4.445 ; -0.635,-4.445 1.905,-4.445 ; -0.635,-4.445 -0.9,-4.18 -0.9,-3.44 -0.635,-3.175 ; -0.635,-3.175 1.905,-3.175 ; -0.635,-3.175 -0.9,-2.91 -0.9,-2.17 -0.635,-1.905 ; -0.635,-1.905 1.905,-1.905 ; -0.635,-1.905 -0.9,-1.64 -0.9,-0.9 -0.635,-0.635 ; -0.635,-0.635 1.905,-0.635 ; -0.635,-0.635 -0.9,-0.37 -0.9,0.37 -0.635,0.635 1.905,0.635 2.17,0.37 2.17,-0.37 1.905,-0.635 ; 1.905,-8.255 2.17,-7.99 2.17,-7.25 1.905,-6.985 ; 1.905,-6.985 2.17,-6.72 2.17,-5.98 1.905,-5.715 ; 1.905,-5.715 2.17,-5.45 2.17,-4.71 1.905,-4.445 ; 1.905,-4.445 2.17,-4.18 2.17,-3.44 1.905,-3.175 ; 1.905,-3.175 2.17,-2.91 2.17,-2.17 1.905,-1.905 ; 1.905,-1.905 2.17,-1.64 2.17,-0.9 1.905,-0.635
3D body: height 2, standoff 0, extent -0.9,-9.525 2.17,-8.255
3D body: height 10, standoff -3, extent 1.07,-9.09 1.47,-8.69
3D body: height 10, standoff -3, extent -0.2,-9.09 0.2,-8.69
3D body: height 2, standoff 0, extent -0.9,-8.255 2.17,-6.985
3D body: height 10, standoff -3, extent 1.07,-7.82 1.47,-7.42
3D body: height 10, standoff -3, extent -0.2,-7.82 0.2,-7.42
3D body: height 2, standoff 0, extent -0.9,-6.985 2.17,-5.715
3D body: height 10, standoff -3, extent 1.07,-6.55 1.47,-6.15
3D body: height 10, standoff -3, extent -0.2,-6.55 0.2,-6.15
3D body: height 2, standoff 0, extent -0.9,-0.635 2.17,0.635
3D body: height 10, standoff -3, extent 1.07,-0.2 1.47,0.2
3D body: height 10, standoff -3, extent -0.2,-0.2 0.2,0.2
3D body: height 2, standoff 0, extent -0.9,-1.905 2.17,-0.635
3D body: height 10, standoff -3, extent 1.07,-1.47 1.47,-1.07
3D body: height 10, standoff -3, extent -0.2,-1.47 0.2,-1.07
3D body: height 2, standoff 0, extent -0.9,-3.175 2.17,-1.905
3D body: height 10, standoff -3, extent 1.07,-2.74 1.47,-2.34
3D body: height 10, standoff -3, extent -0.2,-2.74 0.2,-2.34
3D body: height 2, standoff 0, extent -0.9,-4.445 2.17,-3.175
3D body: height 10, standoff -3, extent 1.07,-4.01 1.47,-3.61
3D body: height 10, standoff -3, extent -0.2,-4.01 0.2,-3.61
3D body: height 2, standoff 0, extent -0.9,-5.715 2.17,-4.445
3D body: height 10, standoff -3, extent 1.07,-5.28 1.47,-4.88
3D body: height 10, standoff -3, extent -0.2,-5.28 0.2,-4.88

## HEAD_127_2X9 [mm] "Header 1.27mm 2x9"
pads (18):
  round 1.05 hole 0.65: 1(0,0) 2(1.27,0) 3(0,-1.27) 4(1.27,-1.27) 5(0,-2.54) 6(1.27,-2.54) 7(0,-3.81) 8(1.27,-3.81) 9(0,-5.08) 10(1.27,-5.08) 11(0,-6.35) 12(1.27,-6.35) 13(0,-7.62) 14(1.27,-7.62) 15(0,-8.89) 16(1.27,-8.89) 17(0,-10.16) 18(1.27,-10.16)
Top Overlay:
  lines w0.2: -0.635,-10.795 -0.9,-10.53 -0.9,-9.79 -0.635,-9.525 -0.9,-9.26 -0.9,-8.52 -0.635,-8.255 -0.9,-7.99 -0.9,-7.25 -0.635,-6.985 -0.9,-6.72 -0.9,-5.98 -0.635,-5.715 -0.9,-5.45 -0.9,-4.71 -0.635,-4.445 -0.9,-4.18 -0.9,-3.44 -0.635,-3.175 -0.9,-2.91 -0.9,-2.17 -0.635,-1.905 -0.9,-1.64 -0.9,-0.9 -0.635,-0.635 -0.9,-0.37 -0.9,0.37 -0.635,0.635 ; 1.905,-10.795 2.17,-10.53 2.17,-9.79 1.905,-9.525 2.17,-9.26 2.17,-8.52 1.905,-8.255 2.17,-7.99 2.17,-7.25 1.905,-6.985 2.17,-6.72 2.17,-5.98 1.905,-5.715 2.17,-5.45 2.17,-4.71 1.905,-4.445 2.17,-4.18 2.17,-3.44 1.905,-3.175 2.17,-2.91 2.17,-2.17 1.905,-1.905 2.17,-1.64 2.17,-0.9 1.905,-0.635 2.17,-0.37 2.17,0.37 1.905,0.635
  text "18" at 0.812,-12.551 h2
  text "17" at -1.056,-12.561 h2
  text "2" at 0.845,1.644 h2
  text "1" at -0.236,1.644 h2
Bottom Overlay:
  text "18" at 2.528,-12.297 h2
  text "17" at 0.656,-12.307 h2
  text "2" at 1.695,0.882 h2
  text "1" at 0.236,0.882 h2
Top Assembly:
  lines w0.2: -0.635,-9.525 -0.9,-9.26 -0.9,-8.52 -0.635,-8.255 ; -0.635,-9.525 1.905,-9.525 ; -0.635,-9.525 -0.9,-9.79 -0.9,-10.53 -0.635,-10.795 1.905,-10.795 2.17,-10.53 2.17,-9.79 1.905,-9.525 ; -0.635,-8.255 -0.9,-7.99 -0.9,-7.25 -0.635,-6.985 ; -0.635,-8.255 1.905,-8.255 ; -0.635,-6.985 -0.9,-6.72 -0.9,-5.98 -0.635,-5.715 ; -0.635,-6.985 1.905,-6.985 ; -0.635,-5.715 -0.9,-5.45 -0.9,-4.71 -0.635,-4.445 ; -0.635,-5.715 1.905,-5.715 ; -0.635,-4.445 -0.9,-4.18 -0.9,-3.44 -0.635,-3.175 ; -0.635,-4.445 1.905,-4.445 ; -0.635,-3.175 -0.9,-2.91 -0.9,-2.17 -0.635,-1.905 ; -0.635,-3.175 1.905,-3.175 ; -0.635,-1.905 -0.9,-1.64 -0.9,-0.9 -0.635,-0.635 ; -0.635,-1.905 1.905,-1.905 ; -0.635,-0.635 -0.9,-0.37 -0.9,0.37 -0.635,0.635 1.905,0.635 2.17,0.37 2.17,-0.37 1.905,-0.635 ; -0.635,-0.635 1.905,-0.635 ; 1.905,-9.525 2.17,-9.26 2.17,-8.52 1.905,-8.255 ; 1.905,-8.255 2.17,-7.99 2.17,-7.25 1.905,-6.985 ; 1.905,-6.985 2.17,-6.72 2.17,-5.98 1.905,-5.715 ; 1.905,-5.715 2.17,-5.45 2.17,-4.71 1.905,-4.445 ; 1.905,-4.445 2.17,-4.18 2.17,-3.44 1.905,-3.175 ; 1.905,-3.175 2.17,-2.91 2.17,-2.17 1.905,-1.905 ; 1.905,-1.905 2.17,-1.64 2.17,-0.9 1.905,-0.635
3D body: height 10, standoff -3, extent -0.2,-5.28 0.2,-4.88
3D body: height 10, standoff -3, extent 1.07,-5.28 1.47,-4.88
3D body: height 2, standoff 0, extent -0.9,-5.715 2.17,-4.445
3D body: height 10, standoff -3, extent -0.2,-4.01 0.2,-3.61
3D body: height 10, standoff -3, extent 1.07,-4.01 1.47,-3.61
3D body: height 2, standoff 0, extent -0.9,-4.445 2.17,-3.175
3D body: height 10, standoff -3, extent -0.2,-2.74 0.2,-2.34
3D body: height 10, standoff -3, extent 1.07,-2.74 1.47,-2.34
3D body: height 2, standoff 0, extent -0.9,-3.175 2.17,-1.905
3D body: height 10, standoff -3, extent -0.2,-1.47 0.2,-1.07
3D body: height 10, standoff -3, extent 1.07,-1.47 1.47,-1.07
3D body: height 2, standoff 0, extent -0.9,-1.905 2.17,-0.635
3D body: height 10, standoff -3, extent -0.2,-0.2 0.2,0.2
3D body: height 10, standoff -3, extent 1.07,-0.2 1.47,0.2
3D body: height 2, standoff 0, extent -0.9,-0.635 2.17,0.635
3D body: height 10, standoff -3, extent -0.2,-6.55 0.2,-6.15
3D body: height 10, standoff -3, extent 1.07,-6.55 1.47,-6.15
3D body: height 2, standoff 0, extent -0.9,-6.985 2.17,-5.715
3D body: height 10, standoff -3, extent -0.2,-7.82 0.2,-7.42
3D body: height 10, standoff -3, extent 1.07,-7.82 1.47,-7.42
3D body: height 2, standoff 0, extent -0.9,-8.255 2.17,-6.985
3D body: height 10, standoff -3, extent -0.2,-9.09 0.2,-8.69
3D body: height 10, standoff -3, extent 1.07,-9.09 1.47,-8.69
3D body: height 2, standoff 0, extent -0.9,-9.525 2.17,-8.255
3D body: height 10, standoff -3, extent -0.2,-10.36 0.2,-9.96
3D body: height 10, standoff -3, extent 1.07,-10.36 1.47,-9.96
3D body: height 2, standoff 0, extent -0.9,-10.795 2.17,-9.525

## HEAD_127_2X10 [mm] "Header 1.27mm 2x10"
pads (20):
  round 1.05 hole 0.65: 1(0,0) 2(1.27,0) 3(0,-1.27) 4(1.27,-1.27) 5(0,-2.54) 6(1.27,-2.54) 7(0,-3.81) 8(1.27,-3.81) 9(0,-5.08) 10(1.27,-5.08) 11(0,-6.35) 12(1.27,-6.35) 13(0,-7.62) 14(1.27,-7.62) 15(0,-8.89) 16(1.27,-8.89) 17(0,-10.16) 18(1.27,-10.16) 19(0,-11.43) 20(1.27,-11.43)
Top Overlay:
  lines w0.2: -0.635,-12.065 -0.9,-11.8 -0.9,-11.06 -0.635,-10.795 -0.9,-10.53 -0.9,-9.79 -0.635,-9.525 -0.9,-9.26 -0.9,-8.52 -0.635,-8.255 -0.9,-7.99 -0.9,-7.25 -0.635,-6.985 -0.9,-6.72 -0.9,-5.98 -0.635,-5.715 -0.9,-5.45 -0.9,-4.71 -0.635,-4.445 -0.9,-4.18 -0.9,-3.44 -0.635,-3.175 -0.9,-2.91 -0.9,-2.17 -0.635,-1.905 -0.9,-1.64 -0.9,-0.9 -0.635,-0.635 -0.9,-0.37 -0.9,0.37 -0.635,0.635 ; 1.905,-12.065 2.17,-11.8 2.17,-11.06 1.905,-10.795 2.17,-10.53 2.17,-9.79 1.905,-9.525 2.17,-9.26 2.17,-8.52 1.905,-8.255 2.17,-7.99 2.17,-7.25 1.905,-6.985 2.17,-6.72 2.17,-5.98 1.905,-5.715 2.17,-5.45 2.17,-4.71 1.905,-4.445 2.17,-4.18 2.17,-3.44 1.905,-3.175 2.17,-2.91 2.17,-2.17 1.905,-1.905 2.17,-1.64 2.17,-0.9 1.905,-0.635 2.17,-0.37 2.17,0.37 1.905,0.635
  text "19" at -1.258,-13.821 h2
  text "20" at 0.744,-13.821 h2
  text "2" at 0.845,1.644 h2
  text "1" at -0.236,1.644 h2
Bottom Overlay:
  text "19" at 0.458,-13.567 h2
  text "20" at 2.596,-13.567 h2
  text "2" at 1.695,0.882 h2
  text "1" at 0.236,0.882 h2
Top Assembly:
  lines w0.2: -0.635,-10.795 -0.9,-10.53 -0.9,-9.79 -0.635,-9.525 ; -0.635,-10.795 1.905,-10.795 ; -0.635,-10.795 -0.9,-11.06 -0.9,-11.8 -0.635,-12.065 1.905,-12.065 2.17,-11.8 2.17,-11.06 1.905,-10.795 ; -0.635,-9.525 -0.9,-9.26 -0.9,-8.52 -0.635,-8.255 ; -0.635,-9.525 1.905,-9.525 ; -0.635,-8.255 -0.9,-7.99 -0.9,-7.25 -0.635,-6.985 ; -0.635,-8.255 1.905,-8.255 ; -0.635,-6.985 -0.9,-6.72 -0.9,-5.98 -0.635,-5.715 ; -0.635,-6.985 1.905,-6.985 ; -0.635,-5.715 -0.9,-5.45 -0.9,-4.71 -0.635,-4.445 ; -0.635,-5.715 1.905,-5.715 ; -0.635,-4.445 -0.9,-4.18 -0.9,-3.44 -0.635,-3.175 ; -0.635,-4.445 1.905,-4.445 ; -0.635,-3.175 -0.9,-2.91 -0.9,-2.17 -0.635,-1.905 ; -0.635,-3.175 1.905,-3.175 ; -0.635,-1.905 -0.9,-1.64 -0.9,-0.9 -0.635,-0.635 ; -0.635,-1.905 1.905,-1.905 ; -0.635,-0.635 -0.9,-0.37 -0.9,0.37 -0.635,0.635 1.905,0.635 2.17,0.37 2.17,-0.37 1.905,-0.635 ; -0.635,-0.635 1.905,-0.635 ; 1.905,-10.795 2.17,-10.53 2.17,-9.79 1.905,-9.525 ; 1.905,-9.525 2.17,-9.26 2.17,-8.52 1.905,-8.255 ; 1.905,-8.255 2.17,-7.99 2.17,-7.25 1.905,-6.985 ; 1.905,-6.985 2.17,-6.72 2.17,-5.98 1.905,-5.715 ; 1.905,-5.715 2.17,-5.45 2.17,-4.71 1.905,-4.445 ; 1.905,-4.445 2.17,-4.18 2.17,-3.44 1.905,-3.175 ; 1.905,-3.175 2.17,-2.91 2.17,-2.17 1.905,-1.905 ; 1.905,-1.905 2.17,-1.64 2.17,-0.9 1.905,-0.635
3D body: height 10, standoff -3, extent -0.2,-5.28 0.2,-4.88
3D body: height 10, standoff -3, extent 1.07,-5.28 1.47,-4.88
3D body: height 2, standoff 0, extent -0.9,-5.715 2.17,-4.445
3D body: height 10, standoff -3, extent -0.2,-4.01 0.2,-3.61
3D body: height 10, standoff -3, extent 1.07,-4.01 1.47,-3.61
3D body: height 2, standoff 0, extent -0.9,-4.445 2.17,-3.175
3D body: height 10, standoff -3, extent -0.2,-2.74 0.2,-2.34
3D body: height 10, standoff -3, extent 1.07,-2.74 1.47,-2.34
3D body: height 2, standoff 0, extent -0.9,-3.175 2.17,-1.905
3D body: height 10, standoff -3, extent -0.2,-1.47 0.2,-1.07
3D body: height 10, standoff -3, extent 1.07,-1.47 1.47,-1.07
3D body: height 2, standoff 0, extent -0.9,-1.905 2.17,-0.635
3D body: height 10, standoff -3, extent -0.2,-0.2 0.2,0.2
3D body: height 10, standoff -3, extent 1.07,-0.2 1.47,0.2
3D body: height 2, standoff 0, extent -0.9,-0.635 2.17,0.635
3D body: height 10, standoff -3, extent -0.2,-6.55 0.2,-6.15
3D body: height 10, standoff -3, extent 1.07,-6.55 1.47,-6.15
3D body: height 2, standoff 0, extent -0.9,-6.985 2.17,-5.715
3D body: height 10, standoff -3, extent -0.2,-7.82 0.2,-7.42
3D body: height 10, standoff -3, extent 1.07,-7.82 1.47,-7.42
3D body: height 2, standoff 0, extent -0.9,-8.255 2.17,-6.985
3D body: height 10, standoff -3, extent -0.2,-9.09 0.2,-8.69
3D body: height 10, standoff -3, extent 1.07,-9.09 1.47,-8.69
3D body: height 2, standoff 0, extent -0.9,-9.525 2.17,-8.255
3D body: height 10, standoff -3, extent -0.2,-10.36 0.2,-9.96
3D body: height 10, standoff -3, extent 1.07,-10.36 1.47,-9.96
3D body: height 2, standoff 0, extent -0.9,-10.795 2.17,-9.525
3D body: height 10, standoff -3, extent -0.2,-11.63 0.2,-11.23
3D body: height 10, standoff -3, extent 1.07,-11.63 1.47,-11.23
3D body: height 2, standoff 0, extent -0.9,-12.065 2.17,-10.795